# EAGLE library part ATM90E26_ATM90E26 (library ATM90E26_Featherwing)
Single-Phase High-Per formance Wide-Span Energy Metering IC
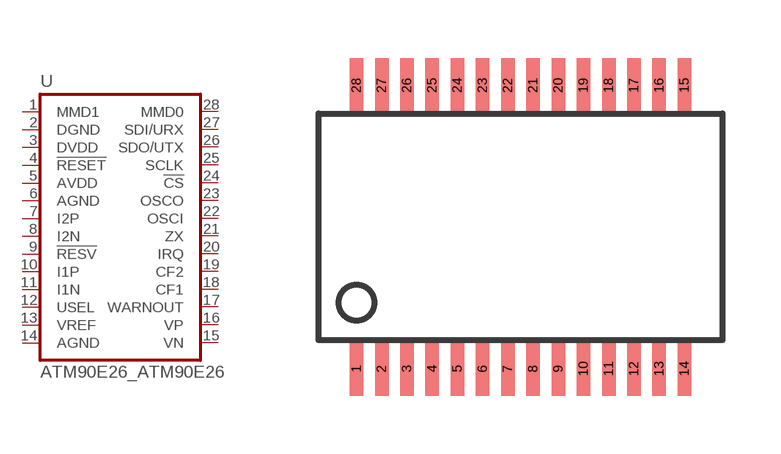
[diagram p0: symbol with the pads of ATM90E26_SSOP-28; footprint ATM90E26_SSOP-28]

Designator prefix -

## ATM90E26_ATM90E26  [ATM90E26_SSOP-28]
1  MMD1  in
2  DGND  pwr
3  DVDD  pwr
4  !RESET  in
5  AVDD  pwr
6  AGND  pwr
7  I2P  in
8  I2N  in
9  !RESV  in
10  I1P  in
11  I1N  in
12  USEL  in
13  VREF  sup
14  AGND  pwr
15  VN  in
16  VP  in
17  WARNOUT  out
18  CF1  out
19  CF2  out
20  IRQ  out
21  ZX
22  OSCI  in
23  OSCO  out
24  !CS  in
25  SCLK  in
26  SDO/UTX  out
27  SDI/URX  in
28  MMD0  in

## Footprint ATM90E26_SSOP-28 (pad centres in mm)
smd 0.348 x 1.397: 1 -4.225,-3.656; 2 -3.575,-3.656; 3 -2.925,-3.656; 4 -2.275,-3.656; 5 -1.625,-3.656; 6 -0.975,-3.656; 7 -0.325,-3.656; 8 0.325,-3.656; 9 0.975,-3.656; 10 1.625,-3.656; 11 2.275,-3.656; 12 2.925,-3.656; 13 3.575,-3.656; 14 4.225,-3.656; 15 4.225,3.656; 16 3.575,3.656; 17 2.925,3.656; 18 2.275,3.656; 19 1.625,3.656; 20 0.975,3.656; 21 0.325,3.656; 22 -0.325,3.656; 23 -0.975,3.656; 24 -1.625,3.656; 25 -2.275,3.656; 26 -2.925,3.656; 27 -3.575,3.656; 28 -4.225,3.656